# Altium schematic symbol library IntergratedCircuits.SchLib: 25 symbols
Pins are listed as number, name and electrical type; pins without a type are passive.

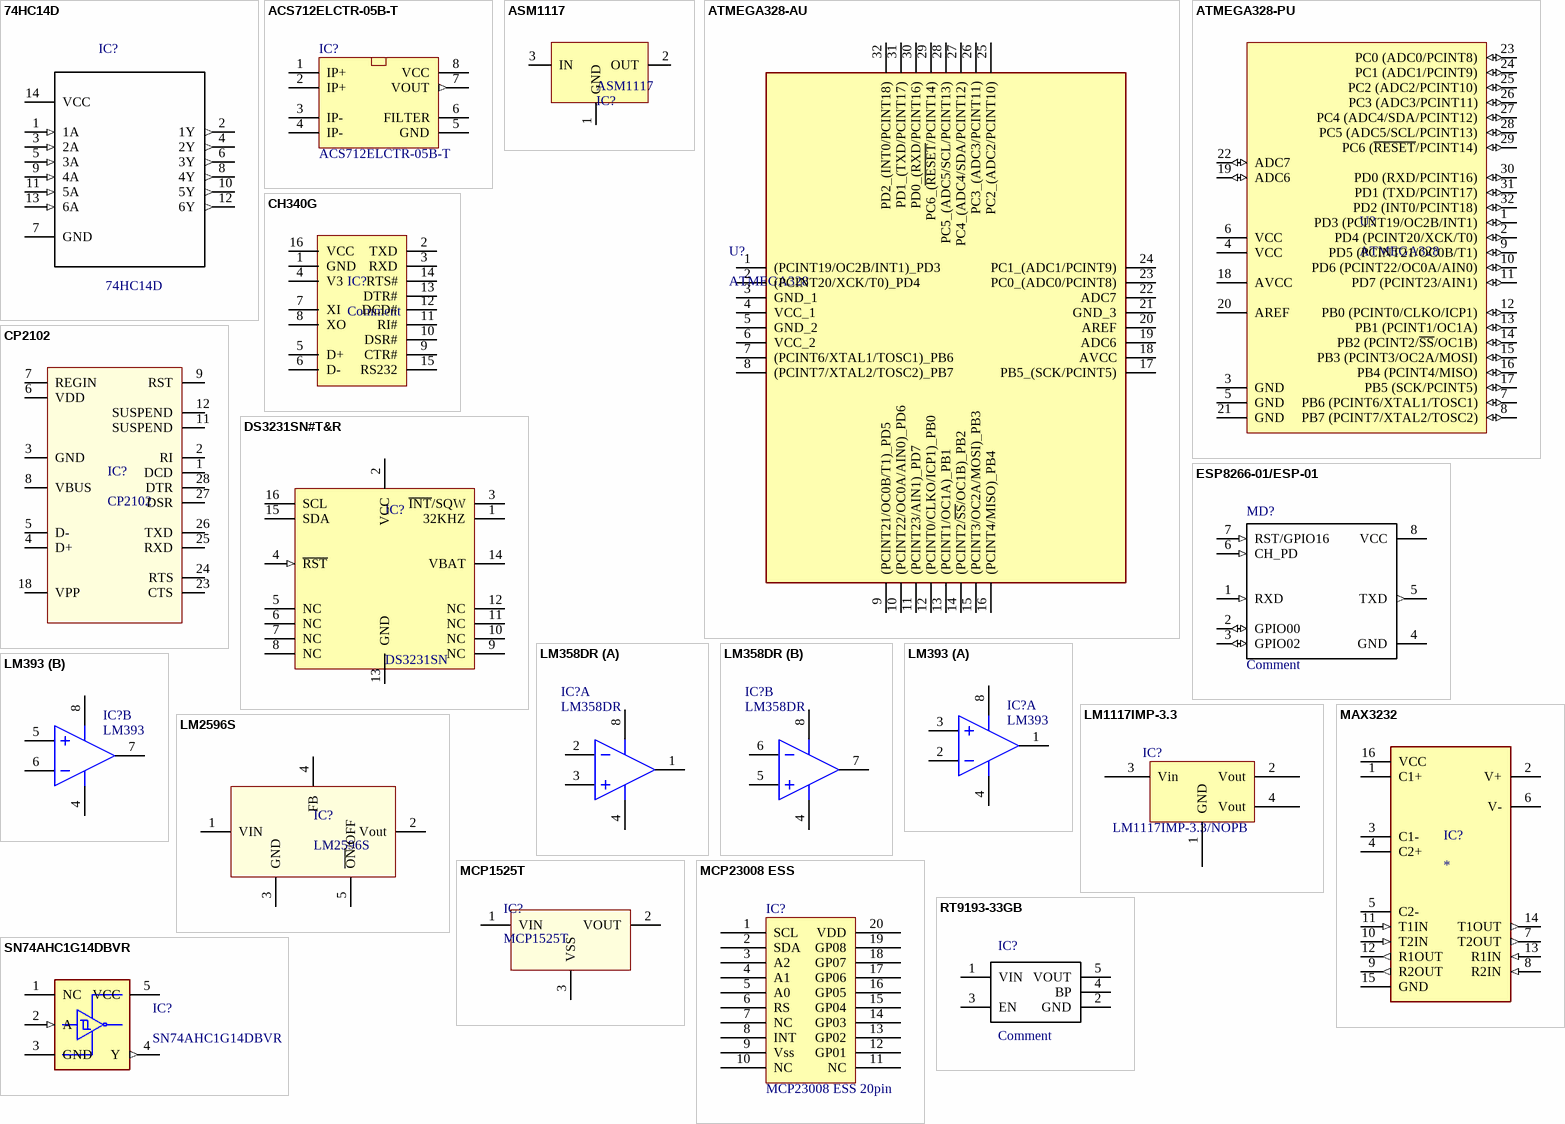
[diagram p0: symbols 74HC14D to SN74AHC1G14DBVR]

## 74HC14D
designator IC?
=Description
pins: 1 1A (in), 2 1Y (out), 3 2A (in), 4 2Y (out), 5 3A (in), 6 3Y (out), 7 GND, 8 4Y (out), 9 4A (in), 10 5Y (out), 11 5A (in), 12 6Y (out), 13 6A (in), 14 VCC (power)

## ACS712ELCTR-05B-T
designator IC?
=Description
pins: 1 IP+, 2 IP+, 3 IP-, 4 IP-, 5 GND (power), 6 FILTER, 7 VOUT (out), 8 VCC (power)

## ASM1117
designator IC?
=Description
pins: 1 GND, 2 OUT, 3 IN

## ATMEGA328-AU
designator U?, comment ATMEGA328
=Description
pins: 1 (PCINT19/OC2B/INT1)_PD3, 2 (PCINT20/XCK/T0)_PD4, 3 GND_1, 4 VCC_1, 5 GND_2, 6 VCC_2, 7 (PCINT6/XTAL1/TOSC1)_PB6, 8 (PCINT7/XTAL2/TOSC2)_PB7, 9 (PCINT21/OC0B/T1)_PD5, 10 (PCINT22/OC0A/AIN0)_PD6, 11 (PCINT23/AIN1)_PD7, 12 (PCINT0/CLKO/ICP1)_PB0, 13 (PCINT1/OC1A)_PB1, 14 (PCINT2/~{SS}/OC1B)_PB2, 15 (PCINT3/OC2A/MOSI)_PB3, 16 (PCINT4/MISO)_PB4, 17 PB5_(SCK/PCINT5), 18 AVCC, 19 ADC6, 20 AREF, 21 GND_3, 22 ADC7, 23 PC0_(ADC0/PCINT8), 24 PC1_(ADC1/PCINT9), 25 PC2_(ADC2/PCINT10), 26 PC3_(ADC3/PCINT11), 27 PC4_(ADC4/SDA/PCINT12), 28 PC5_(ADC5/SCL/PCINT13), 29 PC6_(~{RESET}/PCINT14), 30 PD0_(RXD/PCINT16), 31 PD1_(TXD/PCINT17), 32 PD2_(INT0/PCINT18)

## ATMEGA328-PU
designator U?, comment ATMEGA328
=Description
pins: 1 PD3 (PCINT19/OC2B/INT1) (io), 2 PD4 (PCINT20/XCK/T0) (io), 3 GND (power), 4 VCC (power), 5 GND (power), 6 VCC (power), 7 PB6 (PCINT6/XTAL1/TOSC1) (io), 8 PB7 (PCINT7/XTAL2/TOSC2) (io), 9 PD5 (PCINT21/OC0B/T1) (io), 10 PD6 (PCINT22/OC0A/AIN0) (io), 11 PD7 (PCINT23/AIN1) (io), 12 PB0 (PCINT0/CLKO/ICP1) (io), 13 PB1 (PCINT1/OC1A) (io), 14 PB2 (PCINT2/~{SS}/OC1B) (io), 15 PB3 (PCINT3/OC2A/MOSI) (io), 16 PB4 (PCINT4/MISO) (io), 17 PB5 (SCK/PCINT5) (io), 18 AVCC (power), 19 ADC6 (io), 20 AREF, 21 GND (power), 22 ADC7 (io), 23 PC0 (ADC0/PCINT8) (io), 24 PC1 (ADC1/PCINT9) (io), 25 PC2 (ADC2/PCINT10) (io), 26 PC3 (ADC3/PCINT11) (io), 27 PC4 (ADC4/SDA/PCINT12) (io), 28 PC5 (ADC5/SCL/PCINT13) (io), 29 PC6 (~{RESET}/PCINT14) (io), 30 PD0 (RXD/PCINT16) (io), 31 PD1 (TXD/PCINT17) (io), 32 PD2 (INT0/PCINT18) (io)

## CH340G
designator IC?, comment Comment
=Description
pins: 1 GND, 2 TXD, 3 RXD, 4 V3, 5 D+, 6 D-, 7 XI, 8 XO, 9 CTR#, 10 DSR#, 11 RI#, 12 DCD#, 13 DTR#, 14 RTS#, 15 RS232, 16 VCC

## CP2102
designator IC?
=Description
pins: 1 DCD, 2 RI, 3 GND, 4 D+, 5 D-, 6 VDD, 7 REGIN, 8 VBUS, 9 RST, 11 SUSPEND, 12 SUSPEND, 18 VPP, 23 CTS, 24 RTS, 25 RXD, 26 TXD, 27 DSR, 28 DTR

## DS3231SN#T&R
designator IC?, comment DS3231SN
=Description
pins: 1 32KHZ (power), 2 VCC (power), 3 ~{INT}/SQW (power), 4 ~{RST} (in), 5 NC (power), 6 NC (power), 7 NC (power), 8 NC (power), 9 NC, 10 NC, 11 NC, 12 NC, 13 GND, 14 VBAT, 15 SDA, 16 SCL

## ESP8266-01/ESP-01
designator MD?, comment Comment
=Description
pins: 1 RXD (in), 2 GPIO00 (io), 3 GPIO02 (io), 4 GND (power), 5 TXD (out), 6 CH_PD (in), 7 RST/GPIO16 (in), 8 VCC (power)

## LM358DR
designator IC?
=Description
part A pins: 1 OS NUL, 2 IN-, 3 IN+, 4 V-, 8 TAB
part B pins: 4 V-, 5 IN+, 6 IN-, 7 OS NUL, 8 TAB

## LM393
designator IC?
=Description
part A pins: 1 OS NUL, 2 IN-, 3 IN+, 4 V-, 8 TAB
part B pins: 4 V-, 5 IN+, 6 IN-, 7 OS NUL, 8 TAB

## LM1117IMP-3.3
designator IC?, comment LM1117IMP-3.3/NOPB
=Description
pins: 1 GND, 2 Vout, 3 Vin, 4 Vout

## LM2596S
designator IC?
=Description
pins: 1 VIN, 2 Vout, 3 GND, 4 FB, 5 ~{ON}/OFF

## MAX3232
designator IC?
=Description
pins: 1 C1+, 2 V+, 3 C1-, 4 C2+, 5 C2-, 6 V-, 7 T2OUT (out), 8 R2IN (in), 9 R2OUT (out), 10 T2IN (in), 11 T1IN (in), 12 R1OUT (out), 13 R1IN (in), 14 T1OUT (out), 15 GND (power), 16 VCC (power)

## MCP1525T
designator IC?
=Description
pins: 1 VIN, 2 VOUT, 3 VSS

## MCP23008 ESS
designator IC?, comment MCP23008 ESS 20pin
=Description
pins: 1 SCL, 2 SDA, 3 A2, 4 A1, 5 A0, 6 RS, 7 NC, 8 INT, 9 Vss, 10 NC, 11 NC, 12 GP01, 13 GP02, 14 GP03, 15 GP04, 16 GP05, 17 GP06, 18 GP07, 19 GP08, 20 VDD

## RT9193-33GB
designator IC?, comment Comment
=Description
pins: 1 VIN, 2 GND (power), 3 EN, 4 BP, 5 VOUT

## SN74AHC1G14DBVR
designator IC?
=Description
pins: 1 NC, 2 A (in), 3 GND (power), 4 Y (out), 5 VCC (power)

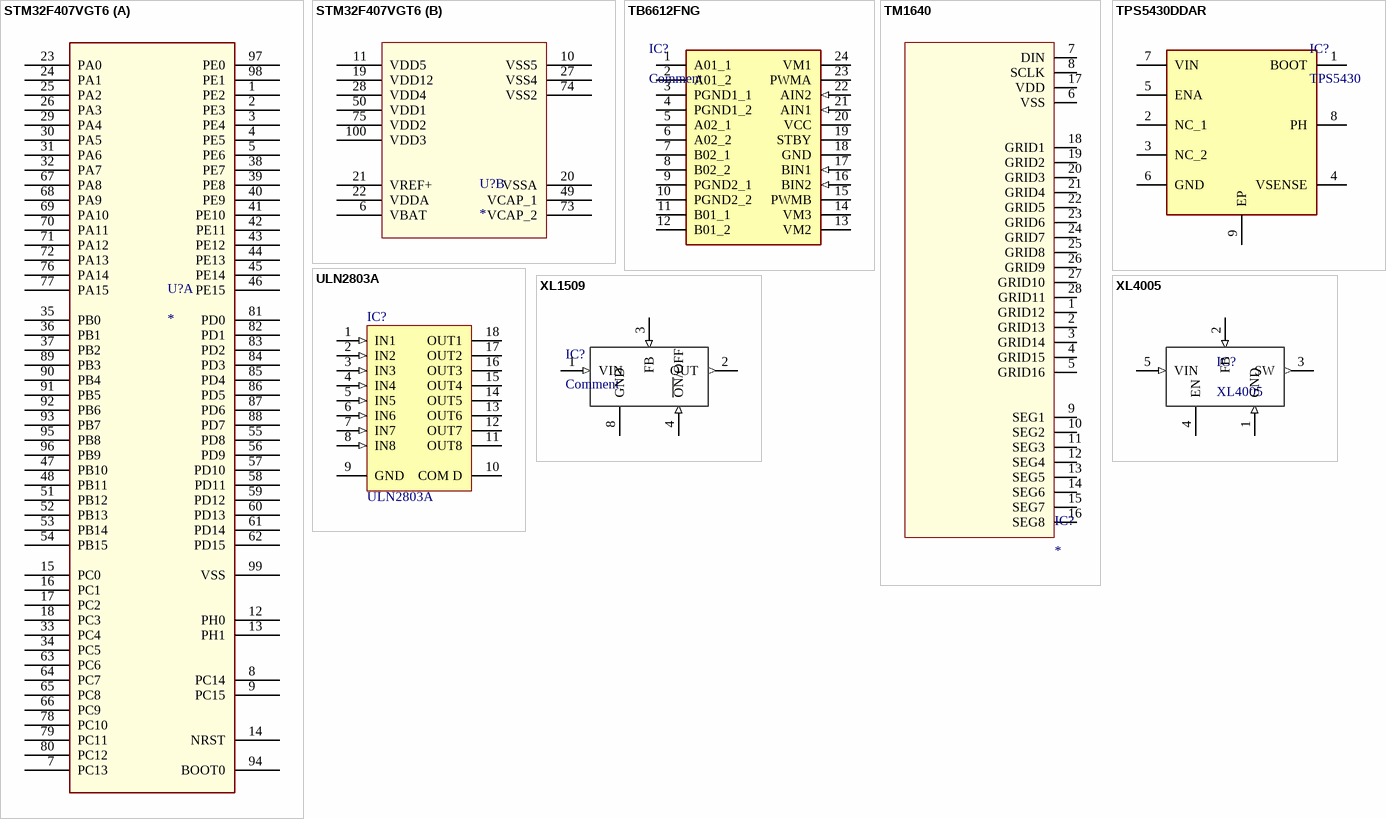
[diagram p1: symbols STM32F407VGT6 to XL4005]

## STM32F407VGT6
designator U?
=Description
part A pins: 1 PE2, 2 PE3, 3 PE4, 4 PE5, 5 PE6, 7 PC13, 8 PC14, 9 PC15, 12 PH0, 13 PH1, 14 NRST, 15 PC0, 16 PC1, 17 PC2, 18 PC3, 23 PA0, 24 PA1, 25 PA2, 26 PA3, 29 PA4, 30 PA5, 31 PA6, 32 PA7, 33 PC4, 34 PC5, 35 PB0, 36 PB1, 37 PB2, 38 PE7, 39 PE8, 40 PE9, 41 PE10, 42 PE11, 43 PE12, 44 PE13, 45 PE14, 46 PE15, 47 PB10, 48 PB11, 51 PB12, 52 PB13, 53 PB14, 54 PB15, 55 PD8, 56 PD9, 57 PD10, 58 PD11, 59 PD12, 60 PD13, 61 PD14, 62 PD15, 63 PC6, 64 PC7, 65 PC8, 66 PC9, 67 PA8, 68 PA9, 69 PA10, 70 PA11, 71 PA12, 72 PA13, 76 PA14, 77 PA15, 78 PC10, 79 PC11, 80 PC12, 81 PD0, 82 PD1, 83 PD2, 84 PD3, 85 PD4, 86 PD5, 87 PD6, 88 PD7, 89 PB3, 90 PB4, 91 PB5, 92 PB6, 93 PB7, 94 BOOT0, 95 PB8, 96 PB9, 97 PE0, 98 PE1, 99 VSS
part B pins: 6 VBAT (power), 10 VSS5 (power), 11 VDD5 (power), 19 VDD12 (power), 20 VSSA (power), 21 VREF+ (power), 22 VDDA (power), 27 VSS4 (power), 28 VDD4 (power), 49 VCAP_1, 50 VDD1 (power), 73 VCAP_2, 74 VSS2 (power), 75 VDD2 (power), 100 VDD3 (power)

## TB6612FNG
designator IC?, comment Comment
=Description
pins: 1 A01_1, 2 A01_2, 3 PGND1_1 (power), 4 PGND1_2 (power), 5 A02_1, 6 A02_2, 7 B02_1, 8 B02_2, 9 PGND2_1 (power), 10 PGND2_2 (power), 11 B01_1, 12 B01_2, 13 VM2, 14 VM3, 15 PWMB, 16 BIN2 (in), 17 BIN1 (in), 18 GND (power), 19 STBY, 20 VCC (power), 21 AIN1 (in), 22 AIN2 (in), 23 PWMA, 24 VM1

## TM1640
designator IC?
=Description
pins: 1 GRID12, 2 GRID13, 3 GRID14, 4 GRID15, 5 GRID16, 6 VSS, 7 DIN, 8 SCLK, 9 SEG1, 10 SEG2, 11 SEG3, 12 SEG4, 13 SEG5, 14 SEG6, 15 SEG7, 16 SEG8, 17 VDD, 18 GRID1, 19 GRID2, 20 GRID3, 21 GRID4, 22 GRID5, 23 GRID6, 24 GRID7, 25 GRID8, 26 GRID9, 27 GRID10, 28 GRID11

## TPS5430DDAR
designator IC?, comment TPS5430
=Description
pins: 1 BOOT, 2 NC_1, 3 NC_2, 4 VSENSE, 5 ENA, 6 GND, 7 VIN, 8 PH, 9 EP

## ULN2803A
designator IC?
=Description; Published: 13-Oct-2000; LatestRevisionDate: 06-Jun-2005; LatestRevisionNote: Stylized 3D Model Added.; DatasheetVersion: 1999; PackageVersion: 1999; PackageReference: A18; Publisher: Altium Limited; PackageDescription: DIP; 18 Leads; Row Spacing 7.62 mm; Pitch 2.54 mm; ComponentLink1Description: Manufacturer Link; ComponentLink1URL: http://www.allegromicro.com/
pins: 1 IN1 (in), 2 IN2 (in), 3 IN3 (in), 4 IN4 (in), 5 IN5 (in), 6 IN6 (in), 7 IN7 (in), 8 IN8 (in), 9 GND (power), 10 COM D, 11 OUT8 (oc), 12 OUT7 (oc), 13 OUT6 (oc), 14 OUT5 (oc), 15 OUT4 (oc), 16 OUT3 (oc), 17 OUT2 (oc), 18 OUT1 (oc)

## XL1509
designator IC?, comment Comment
=Description
pins: 1 VIN (in), 2 OUT (out), 3 FB (in), 4 ~{ON}/OFF (in), 8 GND (power)

## XL4005
designator IC?
=Description
pins: 1 GND (in), 2 FB (in), 3 SW (out), 4 EN (power), 5 VIN (in)